# EAGLE library part ADF7025 (library adf7025)
Analog Devices ISM Transceiver FSK all integrated, 2.3 V to 3.6 V, 434, 868, 912MHz, up to 384kBaud source: www.analog.com, adf7025.pdf
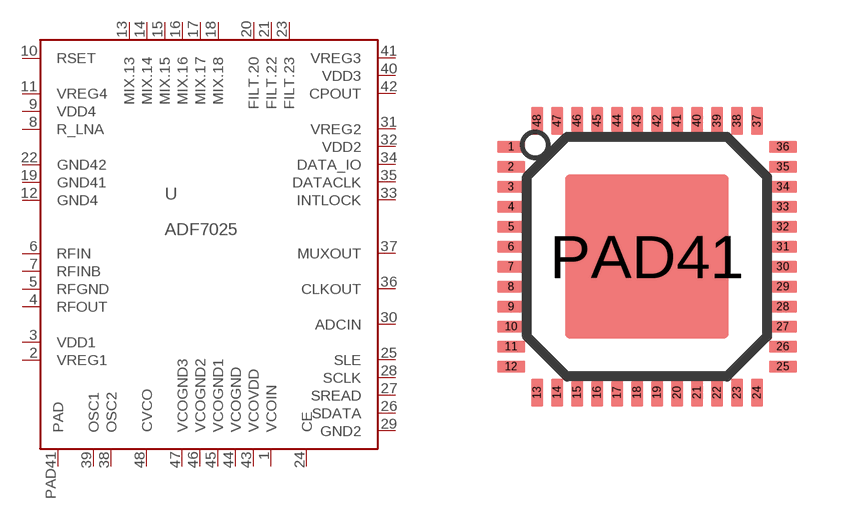
[diagram p0: symbol with the pads of LFCSP48; footprint LFCSP48]

Designator prefix -

## ADF7025  [LFCSP48]
1  VCOIN  in
2  VREG1  pwr
3  VDD1  pwr
4  RFOUT  out
5  RFGND  pwr
6  RFIN  in
7  RFINB  in
8  R_LNA
9  VDD4  pwr
10  RSET  out
11  VREG4  pwr
12  GND4  pwr
13  MIX.13  in
14  MIX.14
15  MIX.15
16  MIX.16
17  MIX.17
18  MIX.18
19  GND41  pwr
20  FILT.20
21  FILT.22  out
22  GND42  pwr
23  FILT.23  in
24  CE
25  SLE
26  SDATA
27  SREAD
28  SCLK
29  GND2
30  ADCIN  in
31  VREG2
32  VDD2
33  INTLOCK
34  DATA_IO
35  DATACLK
36  CLKOUT
37  MUXOUT
38  OSC2
39  OSC1
40  VDD3
41  VREG3
42  CPOUT
43  VCOVDD  pwr
44  VCOGND  pwr
45  VCOGND1  pwr
46  VCOGND2  pwr
47  VCOGND3  pwr
48  CVCO
PAD41  PAD  pwr

## Footprint LFCSP48 (pad centres in mm)
48 Lead LFCSP_VQ (Jedec MO-220) source: www.analog.com ADF7025.pdf optimized for 8mil spacing
smd 0.7 x 0.297: 1 -3.4,2.75; 2 -3.4,2.25; 3 -3.4,1.75; 4 -3.4,1.25; 5 -3.4,0.75; 6 -3.4,0.25; 7 -3.4,-0.25; 8 -3.4,-0.75; 9 -3.4,-1.25; 10 -3.4,-1.75; 11 -3.4,-2.25; 12 -3.4,-2.75; 25 3.4,-2.75; 26 3.4,-2.25; 27 3.4,-1.75; 28 3.4,-1.25; 29 3.4,-0.75; 30 3.4,-0.25; 31 3.4,0.25; 32 3.4,0.75; 33 3.4,1.25; 34 3.4,1.75; 35 3.4,2.25; 36 3.4,2.75
smd 0.297 x 0.7: 13 -2.75,-3.4; 14 -2.25,-3.4; 15 -1.75,-3.4; 16 -1.25,-3.4; 17 -0.75,-3.4; 18 -0.25,-3.4; 19 0.25,-3.4; 20 0.75,-3.4; 21 1.25,-3.4; 22 1.75,-3.4; 23 2.25,-3.4; 24 2.75,-3.4; 37 2.75,3.4; 38 2.25,3.4; 39 1.75,3.4; 40 1.25,3.4; 41 0.75,3.4; 42 0.25,3.4; 43 -0.25,3.4; 44 -0.75,3.4; 45 -1.25,3.4; 46 -1.75,3.4; 47 -2.25,3.4; 48 -2.75,3.4
smd 4.1 x 4.1: PAD41 0,0